# EAGLE library part SI7006-A20-IM (library SENSOR)
Humidity Temperature Sensor 0 ~ 100% RH I²C ±5% RH 18S Surface Mount Si7006-A20-IM: Without protective cover Si7006-A20-IM1: With protective cover Si7006-A20 <https://www.silabs.com/Support%20Documents%2fTechnicalDocs%2fSi7006-A20.pdf>
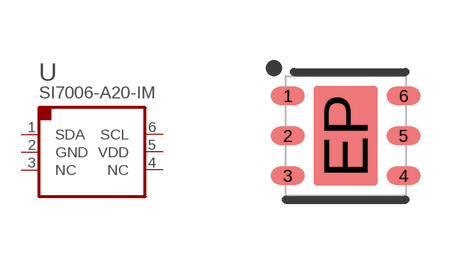
[diagram p7: symbol with the pads of DFN-6-3X3; footprint DFN-6-3X3]

Designator prefix U

## SI7006-A20-IM (COVER: NO), SI7006-A20-IM1 (COVER: Yes; PARTNO: 01-100580-00)  [DFN-6-3X3]
1  SDA
2  GND  pwr
3  NC  nc
4  NC  nc
5  VDD  pwr
6  SCL  in

## Footprint DFN-6-3X3 (pad centres in mm)
DFN-6 3mmx3mm Designed for: Si7050/1/3/4/5-A20 <http://www.silabs.com/Support%20Documents/TechnicalDocs/Si7050-1-3-4-5-A20.pdf>
smd 0.85 x 0.45: 1 -1.45,1; 2 -1.45,0; 3 -1.45,-1; 4 1.45,-1; 5 1.45,0; 6 1.45,1
smd 1.6 x 2.5: EP 0,0